# EAGLE library part CONN_08 (library ManyDev)
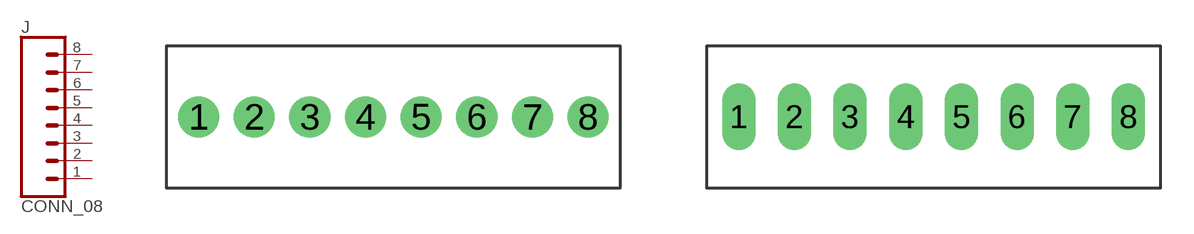
[diagram p1: symbol with the pads of SCREW_TERMINAL_8P_2.54MM; footprints SCREW_TERMINAL_8P_2.54MM, SCREW_TERMINAL_8P_2.54MM_LONGPAD]

Designator prefix J

## CONN_08  [SCREW_TERMINAL_8P_2.54MM]
1  1  pas
2  2  pas
3  3  pas
4  4  pas
5  5  pas
6  6  pas
7  7  pas
8  8  pas

## CONN_08SCREW_TERMINAL_8P_2.54MM_LONGPAD  [SCREW_TERMINAL_8P_2.54MM_LONGPAD]
Pads as for SCREW_TERMINAL_8P_2.54MM

## Footprint SCREW_TERMINAL_8P_2.54MM (pad centres in mm)
Plated Through Hole - 8 Pin Specifications: Pin count:8 Pin pitch:0.1" Example device(s): CONN_08
drill 1.016 pad 1.88: 1 0,0; 2 2.54,0; 3 5.08,0; 4 7.62,0; 5 10.16,0; 6 12.7,0; 7 15.24,0; 8 17.78,0

## Footprint SCREW_TERMINAL_8P_2.54MM_LONGPAD (pad centres in mm)
Plated Through Hole - 8 Pin Long Pad Specifications: Pin count:8 Pin pitch:0.1" Example device(s): CONN_08
drill 1.016 long: 1 0,0; 2 2.54,0; 3 5.08,0; 4 7.62,0; 5 10.16,0; 6 12.7,0; 7 15.24,0; 8 17.78,0